# Altium integrated library Freescale Semiconductor ColdFire MCU.IntLib: 117 symbols (part 7 of 7)
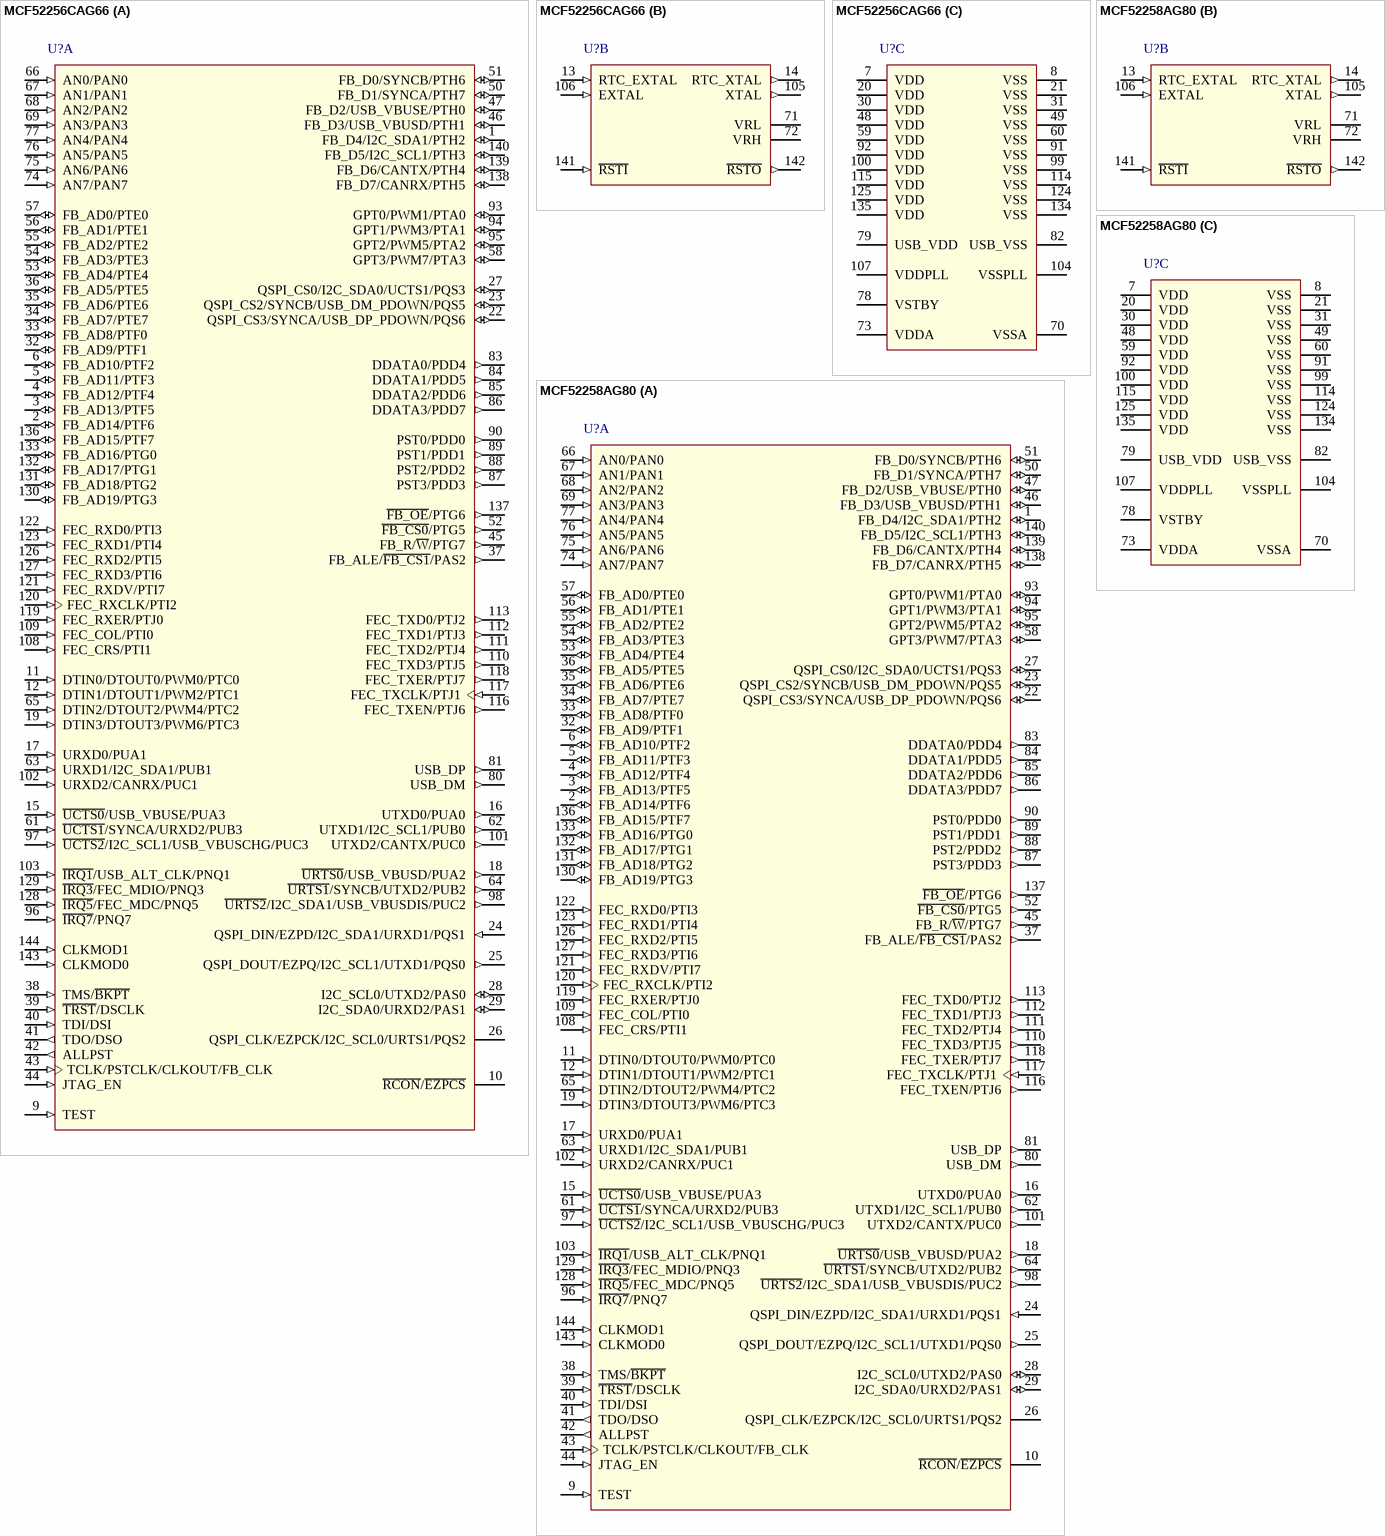
[diagram p36: symbols MCF52256CAG66 to MCF52258AG80]

## MCF52256CAG66
designator U?
MCF52256 ColdFire V2 Microcontroller, 32-Bit, 256KB Flash, 64KB SRAM, 66MHz, -40°C to 85°C, 144-Pin LQFP; DatasheetVersion: rev4, Mar-2011; PackageVersion: revG, Nov-2009; PackageReference: 918-03; PackageDescription: 144-Pin Thin Quad Flat Pack, 20 x 20 mm Body, 0.5 mm Pitch; ComponentLink1Description: Manufacturer URL; ComponentLink1URL: http://www.freescale.com/; ComponentLink2Description: Datasheet; ComponentLink2URL: http://cache.freescale.com/files/32bit/doc/data_sheet/MCF52259.pdf?fpsp=1&WT_TYPE=Data%20Sheets&WT_VENDOR=FREESCALE&WT_FILE_FORMAT=pdf&WT_ASSET=Documentation
footprint 918-03_N (Thin QFP, 144-Leads, Body 20x20mm, Pitch 0.5mm, IPC Medium Density)
footprint 918-03_L (Thin QFP, 144-Leads, Body 20x20mm, Pitch 0.5mm, IPC High Density)
footprint 918-03_M (Thin QFP, 144-Leads, Body 20x20mm, Pitch 0.5mm, IPC Low Density)
part A pins: 1 FB_D4/I2C_SDA1/PTH2 (io), 2 FB_AD14/PTF6 (io), 3 FB_AD13/PTF5 (io), 4 FB_AD12/PTF4 (io), 5 FB_AD11/PTF3 (io), 6 FB_AD10/PTF2 (io), 9 TEST (in), 10 ~{RCON}/~{EZPCS}, 11 DTIN0/DTOUT0/PWM0/PTC0 (in), 12 DTIN1/DTOUT1/PWM2/PTC1 (in), 15 ~{UCTS0}/USB_VBUSE/PUA3 (in), 16 UTXD0/PUA0 (out), 17 URXD0/PUA1 (in), 18 ~{URTS0}/USB_VBUSD/PUA2 (out), 19 DTIN3/DTOUT3/PWM6/PTC3 (in), 22 QSPI_CS3/SYNCA/USB_DP_PDOWN/PQS6 (io), 23 QSPI_CS2/SYNCB/USB_DM_PDOWN/PQS5 (io), 24 QSPI_DIN/EZPD/I2C_SDA1/URXD1/PQS1 (in), 25 QSPI_DOUT/EZPQ/I2C_SCL1/UTXD1/PQS0 (out), 26 QSPI_CLK/EZPCK/I2C_SCL0/URTS1/PQS2, 27 QSPI_CS0/I2C_SDA0/UCTS1/PQS3 (io), 28 I2C_SCL0/UTXD2/PAS0 (io), 29 I2C_SDA0/URXD2/PAS1 (io), 32 FB_AD9/PTF1 (io), 33 FB_AD8/PTF0 (io), 34 FB_AD7/PTE7 (io), 35 FB_AD6/PTE6 (io), 36 FB_AD5/PTE5 (io), 37 FB_ALE/~{FB_CS1}/PAS2 (out), 38 TMS/~{BKPT} (in), 39 ~{TRST}/DSCLK (in), 40 TDI/DSI (in), 41 TDO/DSO (out), 42 ALLPST (out), 43 TCLK/PSTCLK/CLKOUT/FB_CLK (in), 44 JTAG_EN (in), 45 FB_R/~{W}/PTG7 (out), 46 FB_D3/USB_VBUSD/PTH1 (io), 47 FB_D2/USB_VBUSE/PTH0 (io), 50 FB_D1/SYNCA/PTH7 (io), 51 FB_D0/SYNCB/PTH6 (io), 52 ~{FB_CS0}/PTG5 (out), 53 FB_AD4/PTE4 (io), 54 FB_AD3/PTE3 (io), 55 FB_AD2/PTE2 (io), 56 FB_AD1/PTE1 (io), 57 FB_AD0/PTE0 (io), 58 GPT3/PWM7/PTA3 (io), 61 ~{UCTS1}/SYNCA/URXD2/PUB3 (in), 62 UTXD1/I2C_SCL1/PUB0 (out), 63 URXD1/I2C_SDA1/PUB1 (in), 64 ~{URTS1}/SYNCB/UTXD2/PUB2 (out), 65 DTIN2/DTOUT2/PWM4/PTC2 (in), 66 AN0/PAN0 (in), 67 AN1/PAN1 (in), 68 AN2/PAN2 (in), 69 AN3/PAN3 (in), 74 AN7/PAN7 (in), 75 AN6/PAN6 (in), 76 AN5/PAN5 (in), 77 AN4/PAN4 (in), 80 USB_DM (out), 81 USB_DP (out), 83 DDATA0/PDD4 (out), 84 DDATA1/PDD5 (out), 85 DDATA2/PDD6 (out), 86 DDATA3/PDD7 (out), 87 PST3/PDD3 (out), 88 PST2/PDD2 (out), 89 PST1/PDD1 (out), 90 PST0/PDD0 (out), 93 GPT0/PWM1/PTA0 (io), 94 GPT1/PWM3/PTA1 (io), 95 GPT2/PWM5/PTA2 (io), 96 ~{IRQ7}/PNQ7 (in), 97 ~{UCTS2}/I2C_SCL1/USB_VBUSCHG/PUC3 (in), 98 ~{URTS2}/I2C_SDA1/USB_VBUSDIS/PUC2 (out), 101 UTXD2/CANTX/PUC0 (out), 102 URXD2/CANRX/PUC1 (in), 103 ~{IRQ1}/USB_ALT_CLK/PNQ1 (in), 108 FEC_CRS/PTI1 (in), 109 FEC_COL/PTI0 (in), 110 FEC_TXD3/PTJ5 (out), 111 FEC_TXD2/PTJ4 (out), 112 FEC_TXD1/PTJ3 (out), 113 FEC_TXD0/PTJ2 (out), 116 FEC_TXEN/PTJ6 (out), 117 FEC_TXCLK/PTJ1 (in), 118 FEC_TXER/PTJ7 (out), 119 FEC_RXER/PTJ0 (in), 120 FEC_RXCLK/PTI2 (in), 121 FEC_RXDV/PTI7 (in), 122 FEC_RXD0/PTI3 (in), 123 FEC_RXD1/PTI4 (in), 126 FEC_RXD2/PTI5 (in), 127 FEC_RXD3/PTI6 (in), 128 ~{IRQ5}/FEC_MDC/PNQ5 (in), 129 ~{IRQ3}/FEC_MDIO/PNQ3 (in), 130 FB_AD19/PTG3 (io), 131 FB_AD18/PTG2 (io), 132 FB_AD17/PTG1 (io), 133 FB_AD16/PTG0 (io), 136 FB_AD15/PTF7 (io), 137 ~{FB_OE}/PTG6 (out), 138 FB_D7/CANRX/PTH5 (io), 139 FB_D6/CANTX/PTH4 (io), 140 FB_D5/I2C_SCL1/PTH3 (io), 143 CLKMOD0 (in), 144 CLKMOD1 (in)
part B pins: 13 RTC_EXTAL (in), 14 RTC_XTAL (out), 71 VRL (power), 72 VRH (power), 105 XTAL (out), 106 EXTAL (in), 141 ~{RSTI} (in), 142 ~{RSTO} (out)
part C pins: 7 VDD (power), 8 VSS (power), 20 VDD (power), 21 VSS (power), 30 VDD (power), 31 VSS (power), 48 VDD (power), 49 VSS (power), 59 VDD (power), 60 VSS (power), 70 VSSA (power), 73 VDDA (power), 78 VSTBY (power), 79 USB_VDD (power), 82 USB_VSS (power), 91 VSS (power), 92 VDD (power), 99 VSS (power), 100 VDD (power), 104 VSSPLL (power), 107 VDDPLL (power), 114 VSS (power), 115 VDD (power), 124 VSS (power), 125 VDD (power), 134 VSS (power), 135 VDD (power)

## MCF52258AG80
designator U?
MCF52258 ColdFire V2 Microcontroller, 32-Bit, 512KB Flash, 64KB SRAM, 80MHz, 0°C to 70°C, 144-Pin LQFP; DatasheetVersion: rev4, Mar-2011; PackageVersion: revG, Nov-2009; PackageReference: 918-03; PackageDescription: 144-Pin Thin Quad Flat Pack, 20 x 20 mm Body, 0.5 mm Pitch; ComponentLink1Description: Manufacturer URL; ComponentLink1URL: http://www.freescale.com/; ComponentLink2Description: Datasheet; ComponentLink2URL: http://cache.freescale.com/files/32bit/doc/data_sheet/MCF52259.pdf?fpsp=1&WT_TYPE=Data%20Sheets&WT_VENDOR=FREESCALE&WT_FILE_FORMAT=pdf&WT_ASSET=Documentation
footprint 918-03_N (Thin QFP, 144-Leads, Body 20x20mm, Pitch 0.5mm, IPC Medium Density)
footprint 918-03_L (Thin QFP, 144-Leads, Body 20x20mm, Pitch 0.5mm, IPC High Density)
footprint 918-03_M (Thin QFP, 144-Leads, Body 20x20mm, Pitch 0.5mm, IPC Low Density)
part A pins: 1 FB_D4/I2C_SDA1/PTH2 (io), 2 FB_AD14/PTF6 (io), 3 FB_AD13/PTF5 (io), 4 FB_AD12/PTF4 (io), 5 FB_AD11/PTF3 (io), 6 FB_AD10/PTF2 (io), 9 TEST (in), 10 ~{RCON}/~{EZPCS}, 11 DTIN0/DTOUT0/PWM0/PTC0 (in), 12 DTIN1/DTOUT1/PWM2/PTC1 (in), 15 ~{UCTS0}/USB_VBUSE/PUA3 (in), 16 UTXD0/PUA0 (out), 17 URXD0/PUA1 (in), 18 ~{URTS0}/USB_VBUSD/PUA2 (out), 19 DTIN3/DTOUT3/PWM6/PTC3 (in), 22 QSPI_CS3/SYNCA/USB_DP_PDOWN/PQS6 (io), 23 QSPI_CS2/SYNCB/USB_DM_PDOWN/PQS5 (io), 24 QSPI_DIN/EZPD/I2C_SDA1/URXD1/PQS1 (in), 25 QSPI_DOUT/EZPQ/I2C_SCL1/UTXD1/PQS0 (out), 26 QSPI_CLK/EZPCK/I2C_SCL0/URTS1/PQS2, 27 QSPI_CS0/I2C_SDA0/UCTS1/PQS3 (io), 28 I2C_SCL0/UTXD2/PAS0 (io), 29 I2C_SDA0/URXD2/PAS1 (io), 32 FB_AD9/PTF1 (io), 33 FB_AD8/PTF0 (io), 34 FB_AD7/PTE7 (io), 35 FB_AD6/PTE6 (io), 36 FB_AD5/PTE5 (io), 37 FB_ALE/~{FB_CS1}/PAS2 (out), 38 TMS/~{BKPT} (in), 39 ~{TRST}/DSCLK (in), 40 TDI/DSI (in), 41 TDO/DSO (out), 42 ALLPST (out), 43 TCLK/PSTCLK/CLKOUT/FB_CLK (in), 44 JTAG_EN (in), 45 FB_R/~{W}/PTG7 (out), 46 FB_D3/USB_VBUSD/PTH1 (io), 47 FB_D2/USB_VBUSE/PTH0 (io), 50 FB_D1/SYNCA/PTH7 (io), 51 FB_D0/SYNCB/PTH6 (io), 52 ~{FB_CS0}/PTG5 (out), 53 FB_AD4/PTE4 (io), 54 FB_AD3/PTE3 (io), 55 FB_AD2/PTE2 (io), 56 FB_AD1/PTE1 (io), 57 FB_AD0/PTE0 (io), 58 GPT3/PWM7/PTA3 (io), 61 ~{UCTS1}/SYNCA/URXD2/PUB3 (in), 62 UTXD1/I2C_SCL1/PUB0 (out), 63 URXD1/I2C_SDA1/PUB1 (in), 64 ~{URTS1}/SYNCB/UTXD2/PUB2 (out), 65 DTIN2/DTOUT2/PWM4/PTC2 (in), 66 AN0/PAN0 (in), 67 AN1/PAN1 (in), 68 AN2/PAN2 (in), 69 AN3/PAN3 (in), 74 AN7/PAN7 (in), 75 AN6/PAN6 (in), 76 AN5/PAN5 (in), 77 AN4/PAN4 (in), 80 USB_DM (out), 81 USB_DP (out), 83 DDATA0/PDD4 (out), 84 DDATA1/PDD5 (out), 85 DDATA2/PDD6 (out), 86 DDATA3/PDD7 (out), 87 PST3/PDD3 (out), 88 PST2/PDD2 (out), 89 PST1/PDD1 (out), 90 PST0/PDD0 (out), 93 GPT0/PWM1/PTA0 (io), 94 GPT1/PWM3/PTA1 (io), 95 GPT2/PWM5/PTA2 (io), 96 ~{IRQ7}/PNQ7 (in), 97 ~{UCTS2}/I2C_SCL1/USB_VBUSCHG/PUC3 (in), 98 ~{URTS2}/I2C_SDA1/USB_VBUSDIS/PUC2 (out), 101 UTXD2/CANTX/PUC0 (out), 102 URXD2/CANRX/PUC1 (in), 103 ~{IRQ1}/USB_ALT_CLK/PNQ1 (in), 108 FEC_CRS/PTI1 (in), 109 FEC_COL/PTI0 (in), 110 FEC_TXD3/PTJ5 (out), 111 FEC_TXD2/PTJ4 (out), 112 FEC_TXD1/PTJ3 (out), 113 FEC_TXD0/PTJ2 (out), 116 FEC_TXEN/PTJ6 (out), 117 FEC_TXCLK/PTJ1 (in), 118 FEC_TXER/PTJ7 (out), 119 FEC_RXER/PTJ0 (in), 120 FEC_RXCLK/PTI2 (in), 121 FEC_RXDV/PTI7 (in), 122 FEC_RXD0/PTI3 (in), 123 FEC_RXD1/PTI4 (in), 126 FEC_RXD2/PTI5 (in), 127 FEC_RXD3/PTI6 (in), 128 ~{IRQ5}/FEC_MDC/PNQ5 (in), 129 ~{IRQ3}/FEC_MDIO/PNQ3 (in), 130 FB_AD19/PTG3 (io), 131 FB_AD18/PTG2 (io), 132 FB_AD17/PTG1 (io), 133 FB_AD16/PTG0 (io), 136 FB_AD15/PTF7 (io), 137 ~{FB_OE}/PTG6 (out), 138 FB_D7/CANRX/PTH5 (io), 139 FB_D6/CANTX/PTH4 (io), 140 FB_D5/I2C_SCL1/PTH3 (io), 143 CLKMOD0 (in), 144 CLKMOD1 (in)
part B pins: 13 RTC_EXTAL (in), 14 RTC_XTAL (out), 71 VRL (power), 72 VRH (power), 105 XTAL (out), 106 EXTAL (in), 141 ~{RSTI} (in), 142 ~{RSTO} (out)
part C pins: 7 VDD (power), 8 VSS (power), 20 VDD (power), 21 VSS (power), 30 VDD (power), 31 VSS (power), 48 VDD (power), 49 VSS (power), 59 VDD (power), 60 VSS (power), 70 VSSA (power), 73 VDDA (power), 78 VSTBY (power), 79 USB_VDD (power), 82 USB_VSS (power), 91 VSS (power), 92 VDD (power), 99 VSS (power), 100 VDD (power), 104 VSSPLL (power), 107 VDDPLL (power), 114 VSS (power), 115 VDD (power), 124 VSS (power), 125 VDD (power), 134 VSS (power), 135 VDD (power)

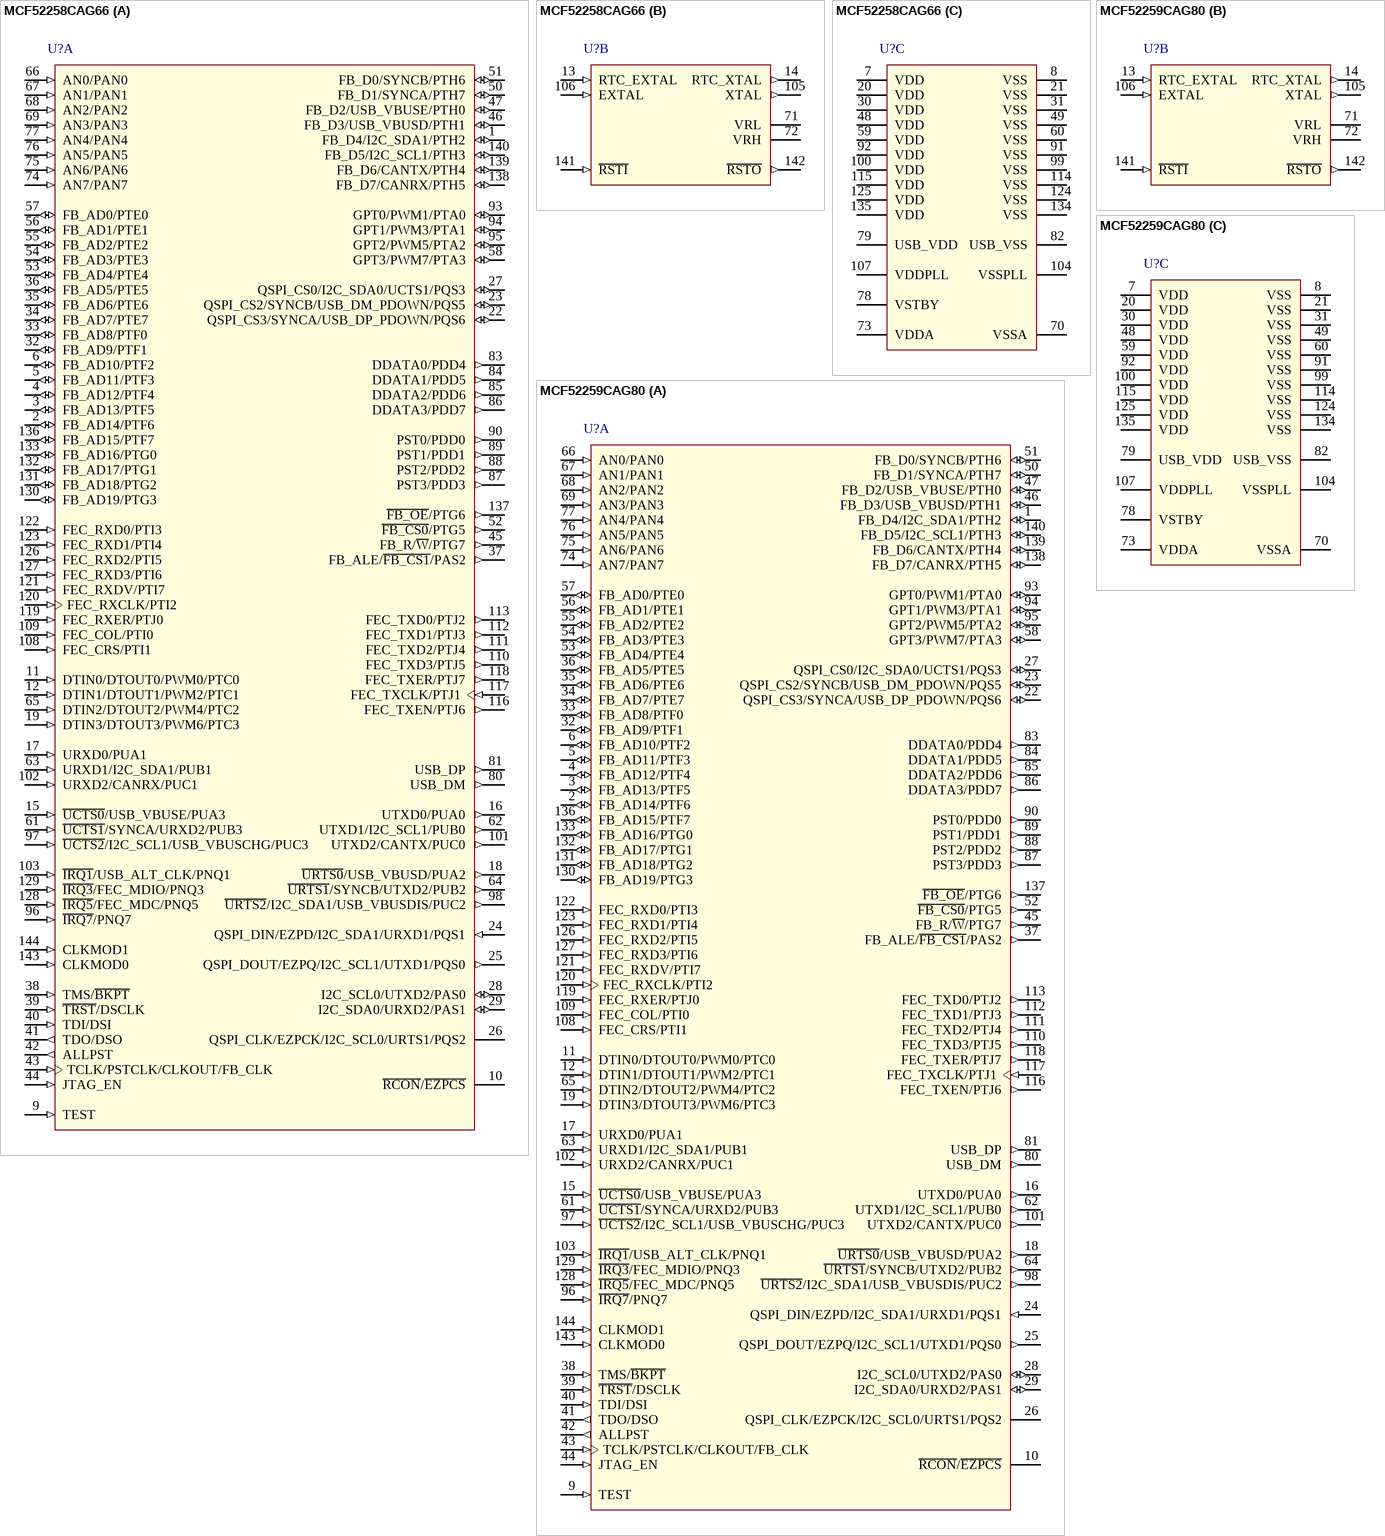
[diagram p31: symbols MCF52258CAG66 to MCF52259CAG80]

## MCF52258CAG66
designator U?
MCF52258 ColdFire V2 Microcontroller, 32-Bit, 512KB Flash, 64KB SRAM, 66MHz, -40°C to 85°C, 144-Pin LQFP; DatasheetVersion: rev4, Mar-2011; PackageVersion: revG, Nov-2009; PackageReference: 918-03; PackageDescription: 144-Pin Thin Quad Flat Pack, 20 x 20 mm Body, 0.5 mm Pitch; ComponentLink1Description: Manufacturer URL; ComponentLink1URL: http://www.freescale.com/; ComponentLink2Description: Datasheet; ComponentLink2URL: http://cache.freescale.com/files/32bit/doc/data_sheet/MCF52259.pdf?fpsp=1&WT_TYPE=Data%20Sheets&WT_VENDOR=FREESCALE&WT_FILE_FORMAT=pdf&WT_ASSET=Documentation
footprint 918-03_N (Thin QFP, 144-Leads, Body 20x20mm, Pitch 0.5mm, IPC Medium Density)
footprint 918-03_L (Thin QFP, 144-Leads, Body 20x20mm, Pitch 0.5mm, IPC High Density)
footprint 918-03_M (Thin QFP, 144-Leads, Body 20x20mm, Pitch 0.5mm, IPC Low Density)
part A pins: 1 FB_D4/I2C_SDA1/PTH2 (io), 2 FB_AD14/PTF6 (io), 3 FB_AD13/PTF5 (io), 4 FB_AD12/PTF4 (io), 5 FB_AD11/PTF3 (io), 6 FB_AD10/PTF2 (io), 9 TEST (in), 10 ~{RCON}/~{EZPCS}, 11 DTIN0/DTOUT0/PWM0/PTC0 (in), 12 DTIN1/DTOUT1/PWM2/PTC1 (in), 15 ~{UCTS0}/USB_VBUSE/PUA3 (in), 16 UTXD0/PUA0 (out), 17 URXD0/PUA1 (in), 18 ~{URTS0}/USB_VBUSD/PUA2 (out), 19 DTIN3/DTOUT3/PWM6/PTC3 (in), 22 QSPI_CS3/SYNCA/USB_DP_PDOWN/PQS6 (io), 23 QSPI_CS2/SYNCB/USB_DM_PDOWN/PQS5 (io), 24 QSPI_DIN/EZPD/I2C_SDA1/URXD1/PQS1 (in), 25 QSPI_DOUT/EZPQ/I2C_SCL1/UTXD1/PQS0 (out), 26 QSPI_CLK/EZPCK/I2C_SCL0/URTS1/PQS2, 27 QSPI_CS0/I2C_SDA0/UCTS1/PQS3 (io), 28 I2C_SCL0/UTXD2/PAS0 (io), 29 I2C_SDA0/URXD2/PAS1 (io), 32 FB_AD9/PTF1 (io), 33 FB_AD8/PTF0 (io), 34 FB_AD7/PTE7 (io), 35 FB_AD6/PTE6 (io), 36 FB_AD5/PTE5 (io), 37 FB_ALE/~{FB_CS1}/PAS2 (out), 38 TMS/~{BKPT} (in), 39 ~{TRST}/DSCLK (in), 40 TDI/DSI (in), 41 TDO/DSO (out), 42 ALLPST (out), 43 TCLK/PSTCLK/CLKOUT/FB_CLK (in), 44 JTAG_EN (in), 45 FB_R/~{W}/PTG7 (out), 46 FB_D3/USB_VBUSD/PTH1 (io), 47 FB_D2/USB_VBUSE/PTH0 (io), 50 FB_D1/SYNCA/PTH7 (io), 51 FB_D0/SYNCB/PTH6 (io), 52 ~{FB_CS0}/PTG5 (out), 53 FB_AD4/PTE4 (io), 54 FB_AD3/PTE3 (io), 55 FB_AD2/PTE2 (io), 56 FB_AD1/PTE1 (io), 57 FB_AD0/PTE0 (io), 58 GPT3/PWM7/PTA3 (io), 61 ~{UCTS1}/SYNCA/URXD2/PUB3 (in), 62 UTXD1/I2C_SCL1/PUB0 (out), 63 URXD1/I2C_SDA1/PUB1 (in), 64 ~{URTS1}/SYNCB/UTXD2/PUB2 (out), 65 DTIN2/DTOUT2/PWM4/PTC2 (in), 66 AN0/PAN0 (in), 67 AN1/PAN1 (in), 68 AN2/PAN2 (in), 69 AN3/PAN3 (in), 74 AN7/PAN7 (in), 75 AN6/PAN6 (in), 76 AN5/PAN5 (in), 77 AN4/PAN4 (in), 80 USB_DM (out), 81 USB_DP (out), 83 DDATA0/PDD4 (out), 84 DDATA1/PDD5 (out), 85 DDATA2/PDD6 (out), 86 DDATA3/PDD7 (out), 87 PST3/PDD3 (out), 88 PST2/PDD2 (out), 89 PST1/PDD1 (out), 90 PST0/PDD0 (out), 93 GPT0/PWM1/PTA0 (io), 94 GPT1/PWM3/PTA1 (io), 95 GPT2/PWM5/PTA2 (io), 96 ~{IRQ7}/PNQ7 (in), 97 ~{UCTS2}/I2C_SCL1/USB_VBUSCHG/PUC3 (in), 98 ~{URTS2}/I2C_SDA1/USB_VBUSDIS/PUC2 (out), 101 UTXD2/CANTX/PUC0 (out), 102 URXD2/CANRX/PUC1 (in), 103 ~{IRQ1}/USB_ALT_CLK/PNQ1 (in), 108 FEC_CRS/PTI1 (in), 109 FEC_COL/PTI0 (in), 110 FEC_TXD3/PTJ5 (out), 111 FEC_TXD2/PTJ4 (out), 112 FEC_TXD1/PTJ3 (out), 113 FEC_TXD0/PTJ2 (out), 116 FEC_TXEN/PTJ6 (out), 117 FEC_TXCLK/PTJ1 (in), 118 FEC_TXER/PTJ7 (out), 119 FEC_RXER/PTJ0 (in), 120 FEC_RXCLK/PTI2 (in), 121 FEC_RXDV/PTI7 (in), 122 FEC_RXD0/PTI3 (in), 123 FEC_RXD1/PTI4 (in), 126 FEC_RXD2/PTI5 (in), 127 FEC_RXD3/PTI6 (in), 128 ~{IRQ5}/FEC_MDC/PNQ5 (in), 129 ~{IRQ3}/FEC_MDIO/PNQ3 (in), 130 FB_AD19/PTG3 (io), 131 FB_AD18/PTG2 (io), 132 FB_AD17/PTG1 (io), 133 FB_AD16/PTG0 (io), 136 FB_AD15/PTF7 (io), 137 ~{FB_OE}/PTG6 (out), 138 FB_D7/CANRX/PTH5 (io), 139 FB_D6/CANTX/PTH4 (io), 140 FB_D5/I2C_SCL1/PTH3 (io), 143 CLKMOD0 (in), 144 CLKMOD1 (in)
part B pins: 13 RTC_EXTAL (in), 14 RTC_XTAL (out), 71 VRL (power), 72 VRH (power), 105 XTAL (out), 106 EXTAL (in), 141 ~{RSTI} (in), 142 ~{RSTO} (out)
part C pins: 7 VDD (power), 8 VSS (power), 20 VDD (power), 21 VSS (power), 30 VDD (power), 31 VSS (power), 48 VDD (power), 49 VSS (power), 59 VDD (power), 60 VSS (power), 70 VSSA (power), 73 VDDA (power), 78 VSTBY (power), 79 USB_VDD (power), 82 USB_VSS (power), 91 VSS (power), 92 VDD (power), 99 VSS (power), 100 VDD (power), 104 VSSPLL (power), 107 VDDPLL (power), 114 VSS (power), 115 VDD (power), 124 VSS (power), 125 VDD (power), 134 VSS (power), 135 VDD (power)

## MCF52259CAG80
designator U?
MCF52259 ColdFire V2 Microcontroller, 32-Bit, 512KB Flash, 64KB SRAM, 80MHz, -40°C to 85°C, 144-Pin LQFP; DatasheetVersion: rev4, Mar-2011; PackageVersion: revG, Nov-2009; PackageReference: 918-03; PackageDescription: 144-Pin Thin Quad Flat Pack, 20 x 20 mm Body, 0.5 mm Pitch; ComponentLink1Description: Manufacturer URL; ComponentLink1URL: http://www.freescale.com/; ComponentLink2Description: Datasheet; ComponentLink2URL: http://cache.freescale.com/files/32bit/doc/data_sheet/MCF52259.pdf?fpsp=1&WT_TYPE=Data%20Sheets&WT_VENDOR=FREESCALE&WT_FILE_FORMAT=pdf&WT_ASSET=Documentation
footprint 918-03_N (Thin QFP, 144-Leads, Body 20x20mm, Pitch 0.5mm, IPC Medium Density)
footprint 918-03_L (Thin QFP, 144-Leads, Body 20x20mm, Pitch 0.5mm, IPC High Density)
footprint 918-03_M (Thin QFP, 144-Leads, Body 20x20mm, Pitch 0.5mm, IPC Low Density)
part A pins: 1 FB_D4/I2C_SDA1/PTH2 (io), 2 FB_AD14/PTF6 (io), 3 FB_AD13/PTF5 (io), 4 FB_AD12/PTF4 (io), 5 FB_AD11/PTF3 (io), 6 FB_AD10/PTF2 (io), 9 TEST (in), 10 ~{RCON}/~{EZPCS}, 11 DTIN0/DTOUT0/PWM0/PTC0 (in), 12 DTIN1/DTOUT1/PWM2/PTC1 (in), 15 ~{UCTS0}/USB_VBUSE/PUA3 (in), 16 UTXD0/PUA0 (out), 17 URXD0/PUA1 (in), 18 ~{URTS0}/USB_VBUSD/PUA2 (out), 19 DTIN3/DTOUT3/PWM6/PTC3 (in), 22 QSPI_CS3/SYNCA/USB_DP_PDOWN/PQS6 (io), 23 QSPI_CS2/SYNCB/USB_DM_PDOWN/PQS5 (io), 24 QSPI_DIN/EZPD/I2C_SDA1/URXD1/PQS1 (in), 25 QSPI_DOUT/EZPQ/I2C_SCL1/UTXD1/PQS0 (out), 26 QSPI_CLK/EZPCK/I2C_SCL0/URTS1/PQS2, 27 QSPI_CS0/I2C_SDA0/UCTS1/PQS3 (io), 28 I2C_SCL0/UTXD2/PAS0 (io), 29 I2C_SDA0/URXD2/PAS1 (io), 32 FB_AD9/PTF1 (io), 33 FB_AD8/PTF0 (io), 34 FB_AD7/PTE7 (io), 35 FB_AD6/PTE6 (io), 36 FB_AD5/PTE5 (io), 37 FB_ALE/~{FB_CS1}/PAS2 (out), 38 TMS/~{BKPT} (in), 39 ~{TRST}/DSCLK (in), 40 TDI/DSI (in), 41 TDO/DSO (out), 42 ALLPST (out), 43 TCLK/PSTCLK/CLKOUT/FB_CLK (in), 44 JTAG_EN (in), 45 FB_R/~{W}/PTG7 (out), 46 FB_D3/USB_VBUSD/PTH1 (io), 47 FB_D2/USB_VBUSE/PTH0 (io), 50 FB_D1/SYNCA/PTH7 (io), 51 FB_D0/SYNCB/PTH6 (io), 52 ~{FB_CS0}/PTG5 (out), 53 FB_AD4/PTE4 (io), 54 FB_AD3/PTE3 (io), 55 FB_AD2/PTE2 (io), 56 FB_AD1/PTE1 (io), 57 FB_AD0/PTE0 (io), 58 GPT3/PWM7/PTA3 (io), 61 ~{UCTS1}/SYNCA/URXD2/PUB3 (in), 62 UTXD1/I2C_SCL1/PUB0 (out), 63 URXD1/I2C_SDA1/PUB1 (in), 64 ~{URTS1}/SYNCB/UTXD2/PUB2 (out), 65 DTIN2/DTOUT2/PWM4/PTC2 (in), 66 AN0/PAN0 (in), 67 AN1/PAN1 (in), 68 AN2/PAN2 (in), 69 AN3/PAN3 (in), 74 AN7/PAN7 (in), 75 AN6/PAN6 (in), 76 AN5/PAN5 (in), 77 AN4/PAN4 (in), 80 USB_DM (out), 81 USB_DP (out), 83 DDATA0/PDD4 (out), 84 DDATA1/PDD5 (out), 85 DDATA2/PDD6 (out), 86 DDATA3/PDD7 (out), 87 PST3/PDD3 (out), 88 PST2/PDD2 (out), 89 PST1/PDD1 (out), 90 PST0/PDD0 (out), 93 GPT0/PWM1/PTA0 (io), 94 GPT1/PWM3/PTA1 (io), 95 GPT2/PWM5/PTA2 (io), 96 ~{IRQ7}/PNQ7 (in), 97 ~{UCTS2}/I2C_SCL1/USB_VBUSCHG/PUC3 (in), 98 ~{URTS2}/I2C_SDA1/USB_VBUSDIS/PUC2 (out), 101 UTXD2/CANTX/PUC0 (out), 102 URXD2/CANRX/PUC1 (in), 103 ~{IRQ1}/USB_ALT_CLK/PNQ1 (in), 108 FEC_CRS/PTI1 (in), 109 FEC_COL/PTI0 (in), 110 FEC_TXD3/PTJ5 (out), 111 FEC_TXD2/PTJ4 (out), 112 FEC_TXD1/PTJ3 (out), 113 FEC_TXD0/PTJ2 (out), 116 FEC_TXEN/PTJ6 (out), 117 FEC_TXCLK/PTJ1 (in), 118 FEC_TXER/PTJ7 (out), 119 FEC_RXER/PTJ0 (in), 120 FEC_RXCLK/PTI2 (in), 121 FEC_RXDV/PTI7 (in), 122 FEC_RXD0/PTI3 (in), 123 FEC_RXD1/PTI4 (in), 126 FEC_RXD2/PTI5 (in), 127 FEC_RXD3/PTI6 (in), 128 ~{IRQ5}/FEC_MDC/PNQ5 (in), 129 ~{IRQ3}/FEC_MDIO/PNQ3 (in), 130 FB_AD19/PTG3 (io), 131 FB_AD18/PTG2 (io), 132 FB_AD17/PTG1 (io), 133 FB_AD16/PTG0 (io), 136 FB_AD15/PTF7 (io), 137 ~{FB_OE}/PTG6 (out), 138 FB_D7/CANRX/PTH5 (io), 139 FB_D6/CANTX/PTH4 (io), 140 FB_D5/I2C_SCL1/PTH3 (io), 143 CLKMOD0 (in), 144 CLKMOD1 (in)
part B pins: 13 RTC_EXTAL (in), 14 RTC_XTAL (out), 71 VRL (power), 72 VRH (power), 105 XTAL (out), 106 EXTAL (in), 141 ~{RSTI} (in), 142 ~{RSTO} (out)
part C pins: 7 VDD (power), 8 VSS (power), 20 VDD (power), 21 VSS (power), 30 VDD (power), 31 VSS (power), 48 VDD (power), 49 VSS (power), 59 VDD (power), 60 VSS (power), 70 VSSA (power), 73 VDDA (power), 78 VSTBY (power), 79 USB_VDD (power), 82 USB_VSS (power), 91 VSS (power), 92 VDD (power), 99 VSS (power), 100 VDD (power), 104 VSSPLL (power), 107 VDDPLL (power), 114 VSS (power), 115 VDD (power), 124 VSS (power), 125 VDD (power), 134 VSS (power), 135 VDD (power)